# EAGLE library part CON-JST2_?M06B-SRSS-TB (library App_Board_V1.31)
Disconnectable Crimp style connector, 1.0mm pitch 6 contacts
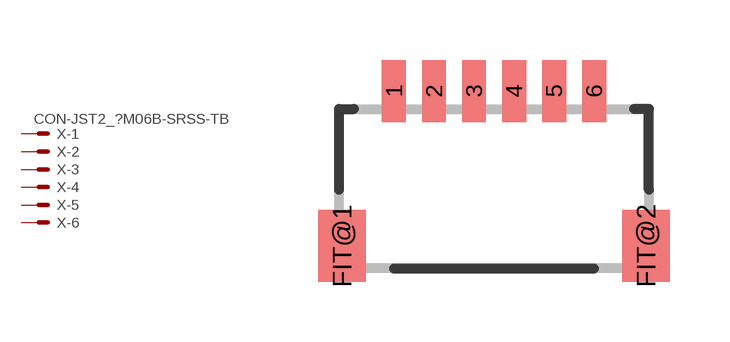
[diagram p3: symbol with the pads of CON-JST2_SM06B-SRSS-TB; footprint CON-JST2_SM06B-SRSS-TB]

Designator prefix X; gates -1=CON-JST2_KV -2=CON-JST2_K -3=CON-JST2_K -4=CON-JST2_K -5=CON-JST2_K -6=CON-JST2_K

## CON-JST2_SM06B-SRSS-TB  [CON-JST2_SM06B-SRSS-TB]
1  -1:S  pas
2  -2:S  pas
3  -3:S  pas
4  -4:S  pas
5  -5:S  pas
6  -6:S  pas

## Footprint CON-JST2_SM06B-SRSS-TB (pad centres in mm)
Shrouded Header, side entry type
smd 0.6 x 1.55: 1 -2.5,2.975; 2 -1.5,2.975; 3 -0.5,2.975; 4 0.5,2.975; 5 1.5,2.975; 6 2.5,2.975
smd 1.2 x 1.8: FIT@1 -3.8,-0.9; FIT@2 3.8,-0.9